# Altium schematic symbol library 11328-T060.SchLib: 1 symbol
Pins are listed as number, name and electrical type; pins without a type are passive.

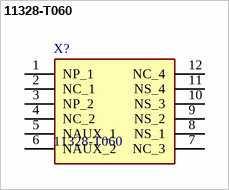
[diagram p0: symbol 11328-T060]

## 11328-T060
designator X?
Power Transformers Flyback Transformer for LT8316, 600VIN, -40C to 125C, PQ2620: size 31 x 28.5 x 23.5 (H) mm max. PIN type; Manufacturer_Name: Sumida; Geometry.Height: 23.5mm; Mouser Part Number: 851-11328-T060; Mouser Price/Stock: https://www.mouser.co.uk/ProductDetail/Sumida/11328-T060?qs=DRkmTr78QARgaZEAx0ESeA%3D%3D; Manufacturer_Part_Number: 11328-T060; Datasheet Link: https://www.mouser.in/datasheet/2/390/LT8316_PQ2620_Datasheet_ver_3_20190825-2199694.pdf
footprint 11328T060
pins: 1 NP_1, 2 NC_1, 3 NP_2, 4 NC_2, 5 NAUX_1, 6 NAUX_2, 7 NC_3, 8 NS_1, 9 NS_2, 10 NS_3, 11 NS_4, 12 NC_4